# Altium integrated library TI Amplifiers and Linear Operational Amplifier High Speed.IntLib: 1100 symbols (part 30 of 44)
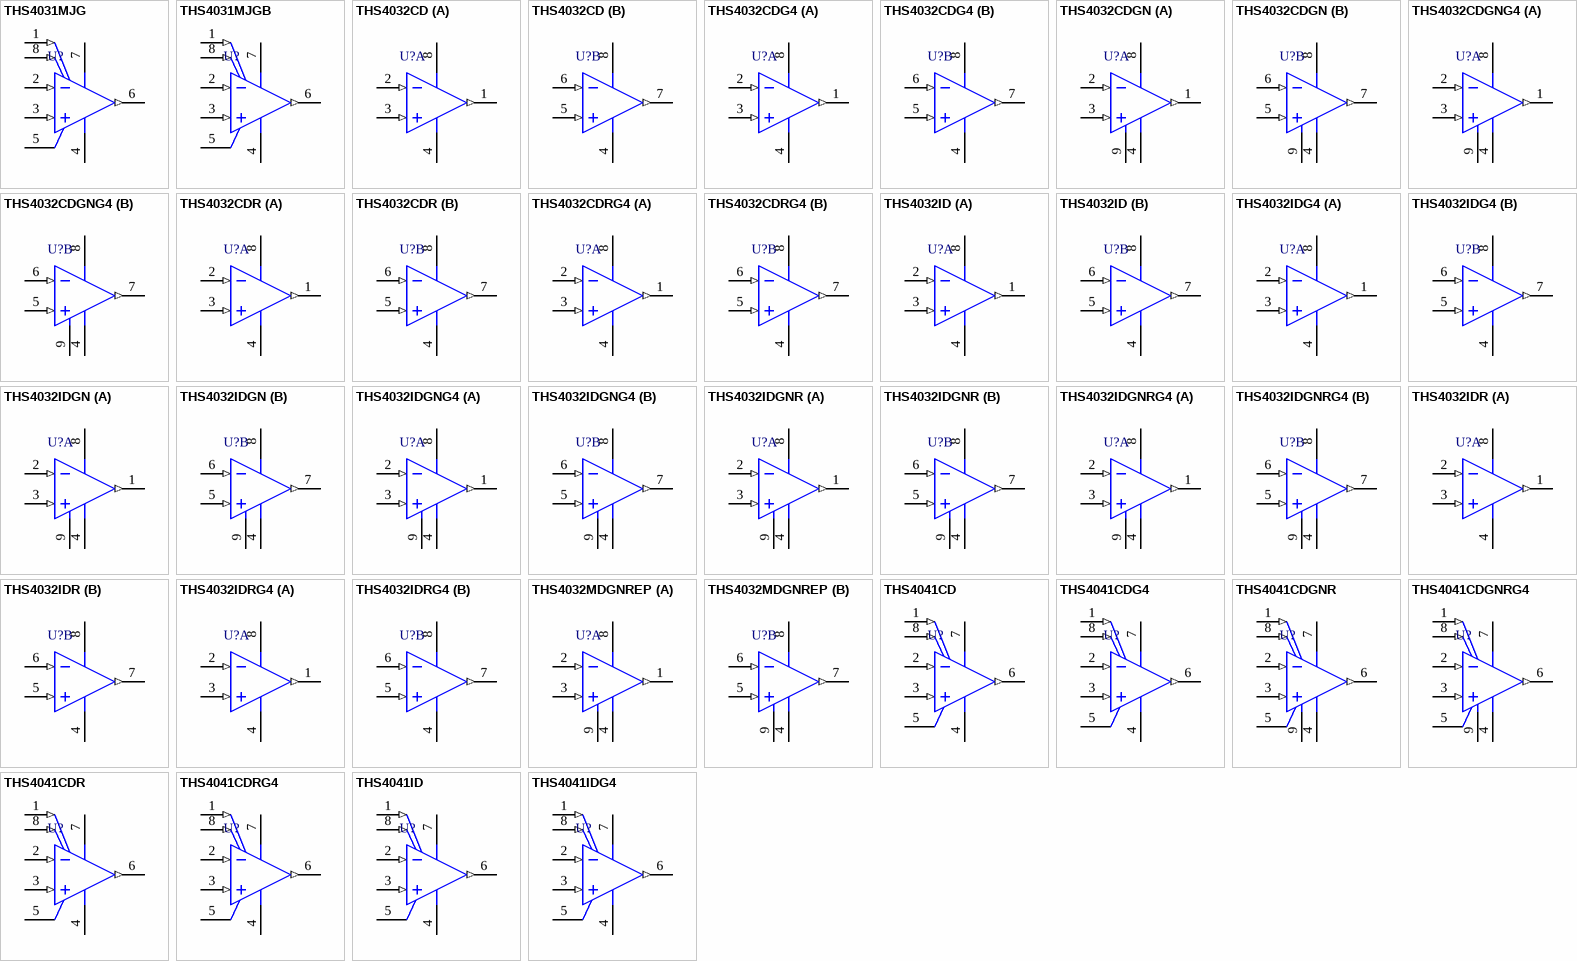
[diagram p80: symbols THS4031MJG to THS4041IDG4]

## THS4041CDG4
designator U?
165 MHz C-Stable Voltage-Feedback Amplifier, 9 to 32 V, 0 to 70 degC, 8-pin SOIC (D8), Green (RoHS & no Sb/Br); Manufacturer: Texas Instruments; PartNumber: THS4041CDG4; 2nd Harmonic(dBc): 75; 3rd Harmonic(dBc): 88; @ MHz: 1; BW @ Acl(MHz): 165; Diff Gain(%): 0.01; Iib(Max)(nA): 6000; Io(Typ)(mA): 100; Iq per channel(Max)(mA): 11; Settling Time (0.1%)(Typ)(ns): 120; Slew Rate(Typ)(V/us): 400; Sub Family: High Output Current Amplifier (>=50mA), High Speed Amplifier (>=50MHz), High Supply Voltage Amplifier (>=30V); THD (Fc is 1 MHz)(Typ)(dB): -75; Vio(Max)(mV): 10; Vn at Flatband(Typ)(nV/rtHz): 14; Vs(Max)(V): 32; Vs(Min)(V): 9; DatasheetVersion: SLOS237B; PackageVersion: 4040047-3/M, 06/2011; PackageReference: D8; PackageDescription: 8-Pin Plastic Small Outline, Body 4.9 x 3.9 mm, Pitch 1.27 mm; Supplier 1: Digi-Key; Supplier Part Number 1: THS4041CDG4-ND; Supplier 2: Mouser; Supplier Part Number 2: 595-THS4041CDG4; Acl, min stable gain(V/V): 1; Diff Phase(deg): 0.01; Eco-Plan: Green (RoHS & no Sb/Br); Number of Channels: 1; Mounting Technology: Surface Mount; Code_JEDEC: MS-012; ComponentLink1Description: Manufacturer URL; ComponentLink1URL: http://www.ti.com/; ComponentLink2Description: Datasheet; ComponentLink2URL: http://www.ti.com/general/docs/lit/getliterature.tsp?genericPartNumber=THS4041&fileType=pdf; ComponentLink3Description: Package Specification; ComponentLink3URL: http://www.ti.com/litv/pdf/msoi002j
footprint TI-D8_N (SOIC, 8-Leads, Body 4.9x3.9mm, Pitch 1.27mm, IPC Medium Density)
footprint TI-D8_L (SOIC, 8-Leads, Body 4.9x3.9mm, Pitch 1.27mm, IPC High Density)
footprint TI-D8_M (SOIC, 8-Leads, Body 4.9x3.9mm, Pitch 1.27mm, IPC Low Density)
pins: 1 NULL (in), 2 IN- (in), 3 IN+ (in), 4 VCC- (power), 5 NC, 6 OUT (out), 7 VCC+ (power), 8 NULL (in)

## THS4041CDGNR
designator U?
165 MHz C-Stable Voltage-Feedback Amplifier, 9 to 32 V, 0 to 70 degC, 8-pin SOP (DGN8), Green (RoHS & no Sb/Br); Manufacturer: Texas Instruments; PartNumber: THS4041CDGNR; 2nd Harmonic(dBc): 75; 3rd Harmonic(dBc): 88; @ MHz: 1; BW @ Acl(MHz): 165; Diff Gain(%): 0.01; Iib(Max)(nA): 6000; Io(Typ)(mA): 100; Iq per channel(Max)(mA): 11; Settling Time (0.1%)(Typ)(ns): 120; Slew Rate(Typ)(V/us): 400; Sub Family: High Output Current Amplifier (>=50mA), High Speed Amplifier (>=50MHz), High Supply Voltage Amplifier (>=30V); THD (Fc is 1 MHz)(Typ)(dB): -75; Vio(Max)(mV): 10; Vn at Flatband(Typ)(nV/rtHz): 14; Vs(Max)(V): 32; Vs(Min)(V): 9; DatasheetVersion: SLOS237B; PackageVersion: 4073271/F, 05/2011; PackageReference: DGN8-1760X1425TP; PackageDescription: 8-pin Plastic Small Outline, Body 3 x 3 mm, Pitch 0.65 mm; Supplier 1: Digi-Key; Supplier Part Number 1: 296-7527-2-ND; Supplier 2: Digi-Key; Supplier Part Number 2: 296-7527-1-ND; Supplier 3: Digi-Key; Supplier Part Number 3: 296-7527-6-ND; Supplier 4: Newark; Supplier Part Number 4: 76C6320; Supplier 5: Mouser; Supplier Part Number 5: 595-THS4041CDGNR; Acl, min stable gain(V/V): 1; Diff Phase(deg): 0.01; Eco-Plan: Green (RoHS & no Sb/Br); Number of Channels: 1; Mounting Technology: Surface Mount; Code_JEDEC: MO-187; ComponentLink1Description: Manufacturer URL; ComponentLink1URL: http://www.ti.com/; ComponentLink2Description: Datasheet; ComponentLink2URL: http://www.ti.com/general/docs/lit/getliterature.tsp?genericPartNumber=THS4041&fileType=pdf; ComponentLink3Description: Package Specification; ComponentLink3URL: http://www.ti.com/litv/pdf/mpds046e
footprint TI-DGN8-1760X1425TP_N (SOP, 8-Leads, Body 3x3mm, Pitch 0.65mm, Thermal Pad 1.76x1.425mm, IPC Medium Density)
footprint TI-DGN8-1760X1425TP_L (SOP, 8-Leads, Body 3x3mm, Pitch 0.65mm, Thermal Pad 1.76x1.425mm, IPC High Density)
footprint TI-DGN8-1760X1425TP_M (SOP, 8-Leads, Body 3x3mm, Pitch 0.65mm, Thermal Pad 1.76 x 1.425 mm, IPC Low Density)
pins: 1 NULL (in), 2 IN- (in), 3 IN+ (in), 4 VCC- (power), 5 NC, 6 OUT (out), 7 VCC+ (power), 8 NULL (in), 9 EP

## THS4041CDGNRG4
designator U?
165 MHz C-Stable Voltage-Feedback Amplifier, 9 to 32 V, 0 to 70 degC, 8-pin SOP (DGN8), Green (RoHS & no Sb/Br); Manufacturer: Texas Instruments; PartNumber: THS4041CDGNRG4; 2nd Harmonic(dBc): 75; 3rd Harmonic(dBc): 88; @ MHz: 1; BW @ Acl(MHz): 165; Diff Gain(%): 0.01; Iib(Max)(nA): 6000; Io(Typ)(mA): 100; Iq per channel(Max)(mA): 11; Settling Time (0.1%)(Typ)(ns): 120; Slew Rate(Typ)(V/us): 400; Sub Family: High Output Current Amplifier (>=50mA), High Speed Amplifier (>=50MHz), High Supply Voltage Amplifier (>=30V); THD (Fc is 1 MHz)(Typ)(dB): -75; Vio(Max)(mV): 10; Vn at Flatband(Typ)(nV/rtHz): 14; Vs(Max)(V): 32; Vs(Min)(V): 9; DatasheetVersion: SLOS237B; PackageVersion: 4073271/F, 05/2011; PackageReference: DGN8-1760X1425TP; PackageDescription: 8-pin Plastic Small Outline, Body 3 x 3 mm, Pitch 0.65 mm; Supplier 1: Digi-Key; Supplier Part Number 1: THS4041CDGNRG4-ND; Supplier 2: Mouser; Supplier Part Number 2: 595-THS4041CDGNRG4; Acl, min stable gain(V/V): 1; Diff Phase(deg): 0.01; Eco-Plan: Green (RoHS & no Sb/Br); Number of Channels: 1; Mounting Technology: Surface Mount; Code_JEDEC: MO-187; ComponentLink1Description: Manufacturer URL; ComponentLink1URL: http://www.ti.com/; ComponentLink2Description: Datasheet; ComponentLink2URL: http://www.ti.com/general/docs/lit/getliterature.tsp?genericPartNumber=THS4041&fileType=pdf; ComponentLink3Description: Package Specification; ComponentLink3URL: http://www.ti.com/litv/pdf/mpds046e
footprint TI-DGN8-1760X1425TP_N (SOP, 8-Leads, Body 3x3mm, Pitch 0.65mm, Thermal Pad 1.76x1.425mm, IPC Medium Density)
footprint TI-DGN8-1760X1425TP_L (SOP, 8-Leads, Body 3x3mm, Pitch 0.65mm, Thermal Pad 1.76x1.425mm, IPC High Density)
footprint TI-DGN8-1760X1425TP_M (SOP, 8-Leads, Body 3x3mm, Pitch 0.65mm, Thermal Pad 1.76 x 1.425 mm, IPC Low Density)
pins: 1 NULL (in), 2 IN- (in), 3 IN+ (in), 4 VCC- (power), 5 NC, 6 OUT (out), 7 VCC+ (power), 8 NULL (in), 9 EP

## THS4041CDR
designator U?
165 MHz C-Stable Voltage-Feedback Amplifier, 9 to 32 V, 0 to 70 degC, 8-pin SOIC (D8), Green (RoHS & no Sb/Br); Manufacturer: Texas Instruments; PartNumber: THS4041CDR; 2nd Harmonic(dBc): 75; 3rd Harmonic(dBc): 88; @ MHz: 1; BW @ Acl(MHz): 165; Diff Gain(%): 0.01; Iib(Max)(nA): 6000; Io(Typ)(mA): 100; Iq per channel(Max)(mA): 11; Settling Time (0.1%)(Typ)(ns): 120; Slew Rate(Typ)(V/us): 400; Sub Family: High Output Current Amplifier (>=50mA), High Speed Amplifier (>=50MHz), High Supply Voltage Amplifier (>=30V); THD (Fc is 1 MHz)(Typ)(dB): -75; Vio(Max)(mV): 10; Vn at Flatband(Typ)(nV/rtHz): 14; Vs(Max)(V): 32; Vs(Min)(V): 9; DatasheetVersion: SLOS237B; PackageVersion: 4040047-3/M, 06/2011; PackageReference: D8; PackageDescription: 8-Pin Plastic Small Outline, Body 4.9 x 3.9 mm, Pitch 1.27 mm; Supplier 1: Digi-Key; Supplier Part Number 1: THS4041CDR-ND; Supplier 2: Mouser; Supplier Part Number 2: 595-THS4041CDR; Acl, min stable gain(V/V): 1; Diff Phase(deg): 0.01; Eco-Plan: Green (RoHS & no Sb/Br); Number of Channels: 1; Mounting Technology: Surface Mount; Code_JEDEC: MS-012; ComponentLink1Description: Manufacturer URL; ComponentLink1URL: http://www.ti.com/; ComponentLink2Description: Datasheet; ComponentLink2URL: http://www.ti.com/general/docs/lit/getliterature.tsp?genericPartNumber=THS4041&fileType=pdf; ComponentLink3Description: Package Specification; ComponentLink3URL: http://www.ti.com/litv/pdf/msoi002j
footprint TI-D8_N (SOIC, 8-Leads, Body 4.9x3.9mm, Pitch 1.27mm, IPC Medium Density)
footprint TI-D8_L (SOIC, 8-Leads, Body 4.9x3.9mm, Pitch 1.27mm, IPC High Density)
footprint TI-D8_M (SOIC, 8-Leads, Body 4.9x3.9mm, Pitch 1.27mm, IPC Low Density)
pins: 1 NULL (in), 2 IN- (in), 3 IN+ (in), 4 VCC- (power), 5 NC, 6 OUT (out), 7 VCC+ (power), 8 NULL (in)

## THS4041CDRG4
designator U?
165 MHz C-Stable Voltage-Feedback Amplifier, 9 to 32 V, 0 to 70 degC, 8-pin SOIC (D8), Green (RoHS & no Sb/Br); Manufacturer: Texas Instruments; PartNumber: THS4041CDRG4; 2nd Harmonic(dBc): 75; 3rd Harmonic(dBc): 88; @ MHz: 1; BW @ Acl(MHz): 165; Diff Gain(%): 0.01; Iib(Max)(nA): 6000; Io(Typ)(mA): 100; Iq per channel(Max)(mA): 11; Settling Time (0.1%)(Typ)(ns): 120; Slew Rate(Typ)(V/us): 400; Sub Family: High Output Current Amplifier (>=50mA), High Speed Amplifier (>=50MHz), High Supply Voltage Amplifier (>=30V); THD (Fc is 1 MHz)(Typ)(dB): -75; Vio(Max)(mV): 10; Vn at Flatband(Typ)(nV/rtHz): 14; Vs(Max)(V): 32; Vs(Min)(V): 9; DatasheetVersion: SLOS237B; PackageVersion: 4040047-3/M, 06/2011; PackageReference: D8; PackageDescription: 8-Pin Plastic Small Outline, Body 4.9 x 3.9 mm, Pitch 1.27 mm; Supplier 1: Digi-Key; Supplier Part Number 1: THS4041CDRG4-ND; Supplier 2: Mouser; Supplier Part Number 2: 595-THS4041CDRG4; Acl, min stable gain(V/V): 1; Diff Phase(deg): 0.01; Eco-Plan: Green (RoHS & no Sb/Br); Number of Channels: 1; Mounting Technology: Surface Mount; Code_JEDEC: MS-012; ComponentLink1Description: Manufacturer URL; ComponentLink1URL: http://www.ti.com/; ComponentLink2Description: Datasheet; ComponentLink2URL: http://www.ti.com/general/docs/lit/getliterature.tsp?genericPartNumber=THS4041&fileType=pdf; ComponentLink3Description: Package Specification; ComponentLink3URL: http://www.ti.com/litv/pdf/msoi002j
footprint TI-D8_N (SOIC, 8-Leads, Body 4.9x3.9mm, Pitch 1.27mm, IPC Medium Density)
footprint TI-D8_L (SOIC, 8-Leads, Body 4.9x3.9mm, Pitch 1.27mm, IPC High Density)
footprint TI-D8_M (SOIC, 8-Leads, Body 4.9x3.9mm, Pitch 1.27mm, IPC Low Density)
pins: 1 NULL (in), 2 IN- (in), 3 IN+ (in), 4 VCC- (power), 5 NC, 6 OUT (out), 7 VCC+ (power), 8 NULL (in)

## THS4041ID
designator U?
165 MHz C-Stable Voltage-Feedback Amplifier, 9 to 32 V, -40 to 85 degC, 8-pin SOIC (D8), Green (RoHS & no Sb/Br); Manufacturer: Texas Instruments; PartNumber: THS4041ID; 2nd Harmonic(dBc): 75; 3rd Harmonic(dBc): 88; @ MHz: 1; BW @ Acl(MHz): 165; Diff Gain(%): 0.01; Iib(Max)(nA): 6000; Io(Typ)(mA): 100; Iq per channel(Max)(mA): 11; Settling Time (0.1%)(Typ)(ns): 120; Slew Rate(Typ)(V/us): 400; Sub Family: High Output Current Amplifier (>=50mA), High Speed Amplifier (>=50MHz), High Supply Voltage Amplifier (>=30V); THD (Fc is 1 MHz)(Typ)(dB): -75; Vio(Max)(mV): 10; Vn at Flatband(Typ)(nV/rtHz): 14; Vs(Max)(V): 32; Vs(Min)(V): 9; DatasheetVersion: SLOS237B; PackageVersion: 4040047-3/M, 06/2011; PackageReference: D8; PackageDescription: 8-Pin Plastic Small Outline, Body 4.9 x 3.9 mm, Pitch 1.27 mm; Supplier 1: Digi-Key; Supplier Part Number 1: 296-7528-5-ND; Supplier 2: Mouser; Supplier Part Number 2: 595-THS4041ID; Acl, min stable gain(V/V): 1; Diff Phase(deg): 0.01; Eco-Plan: Green (RoHS & no Sb/Br); Number of Channels: 1; Mounting Technology: Surface Mount; Code_JEDEC: MS-012; ComponentLink1Description: Manufacturer URL; ComponentLink1URL: http://www.ti.com/; ComponentLink2Description: Datasheet; ComponentLink2URL: http://www.ti.com/general/docs/lit/getliterature.tsp?genericPartNumber=THS4041&fileType=pdf; ComponentLink3Description: Package Specification; ComponentLink3URL: http://www.ti.com/litv/pdf/msoi002j
footprint TI-D8_N (SOIC, 8-Leads, Body 4.9x3.9mm, Pitch 1.27mm, IPC Medium Density)
footprint TI-D8_L (SOIC, 8-Leads, Body 4.9x3.9mm, Pitch 1.27mm, IPC High Density)
footprint TI-D8_M (SOIC, 8-Leads, Body 4.9x3.9mm, Pitch 1.27mm, IPC Low Density)
pins: 1 NULL (in), 2 IN- (in), 3 IN+ (in), 4 VCC- (power), 5 NC, 6 OUT (out), 7 VCC+ (power), 8 NULL (in)

## THS4041IDG4
designator U?
165 MHz C-Stable Voltage-Feedback Amplifier, 9 to 32 V, -40 to 85 degC, 8-pin SOIC (D8), Green (RoHS & no Sb/Br); Manufacturer: Texas Instruments; PartNumber: THS4041IDG4; 2nd Harmonic(dBc): 75; 3rd Harmonic(dBc): 88; @ MHz: 1; BW @ Acl(MHz): 165; Diff Gain(%): 0.01; Iib(Max)(nA): 6000; Io(Typ)(mA): 100; Iq per channel(Max)(mA): 11; Settling Time (0.1%)(Typ)(ns): 120; Slew Rate(Typ)(V/us): 400; Sub Family: High Output Current Amplifier (>=50mA), High Speed Amplifier (>=50MHz), High Supply Voltage Amplifier (>=30V); THD (Fc is 1 MHz)(Typ)(dB): -75; Vio(Max)(mV): 10; Vn at Flatband(Typ)(nV/rtHz): 14; Vs(Max)(V): 32; Vs(Min)(V): 9; DatasheetVersion: SLOS237B; PackageVersion: 4040047-3/M, 06/2011; PackageReference: D8; PackageDescription: 8-Pin Plastic Small Outline, Body 4.9 x 3.9 mm, Pitch 1.27 mm; Supplier 1: Digi-Key; Supplier Part Number 1: THS4041IDG4-ND; Supplier 2: Mouser; Supplier Part Number 2: 595-THS4041IDG4; Acl, min stable gain(V/V): 1; Diff Phase(deg): 0.01; Eco-Plan: Green (RoHS & no Sb/Br); Number of Channels: 1; Mounting Technology: Surface Mount; Code_JEDEC: MS-012; ComponentLink1Description: Manufacturer URL; ComponentLink1URL: http://www.ti.com/; ComponentLink2Description: Datasheet; ComponentLink2URL: http://www.ti.com/general/docs/lit/getliterature.tsp?genericPartNumber=THS4041&fileType=pdf; ComponentLink3Description: Package Specification; ComponentLink3URL: http://www.ti.com/litv/pdf/msoi002j
footprint TI-D8_N (SOIC, 8-Leads, Body 4.9x3.9mm, Pitch 1.27mm, IPC Medium Density)
footprint TI-D8_L (SOIC, 8-Leads, Body 4.9x3.9mm, Pitch 1.27mm, IPC High Density)
footprint TI-D8_M (SOIC, 8-Leads, Body 4.9x3.9mm, Pitch 1.27mm, IPC Low Density)
pins: 1 NULL (in), 2 IN- (in), 3 IN+ (in), 4 VCC- (power), 5 NC, 6 OUT (out), 7 VCC+ (power), 8 NULL (in)

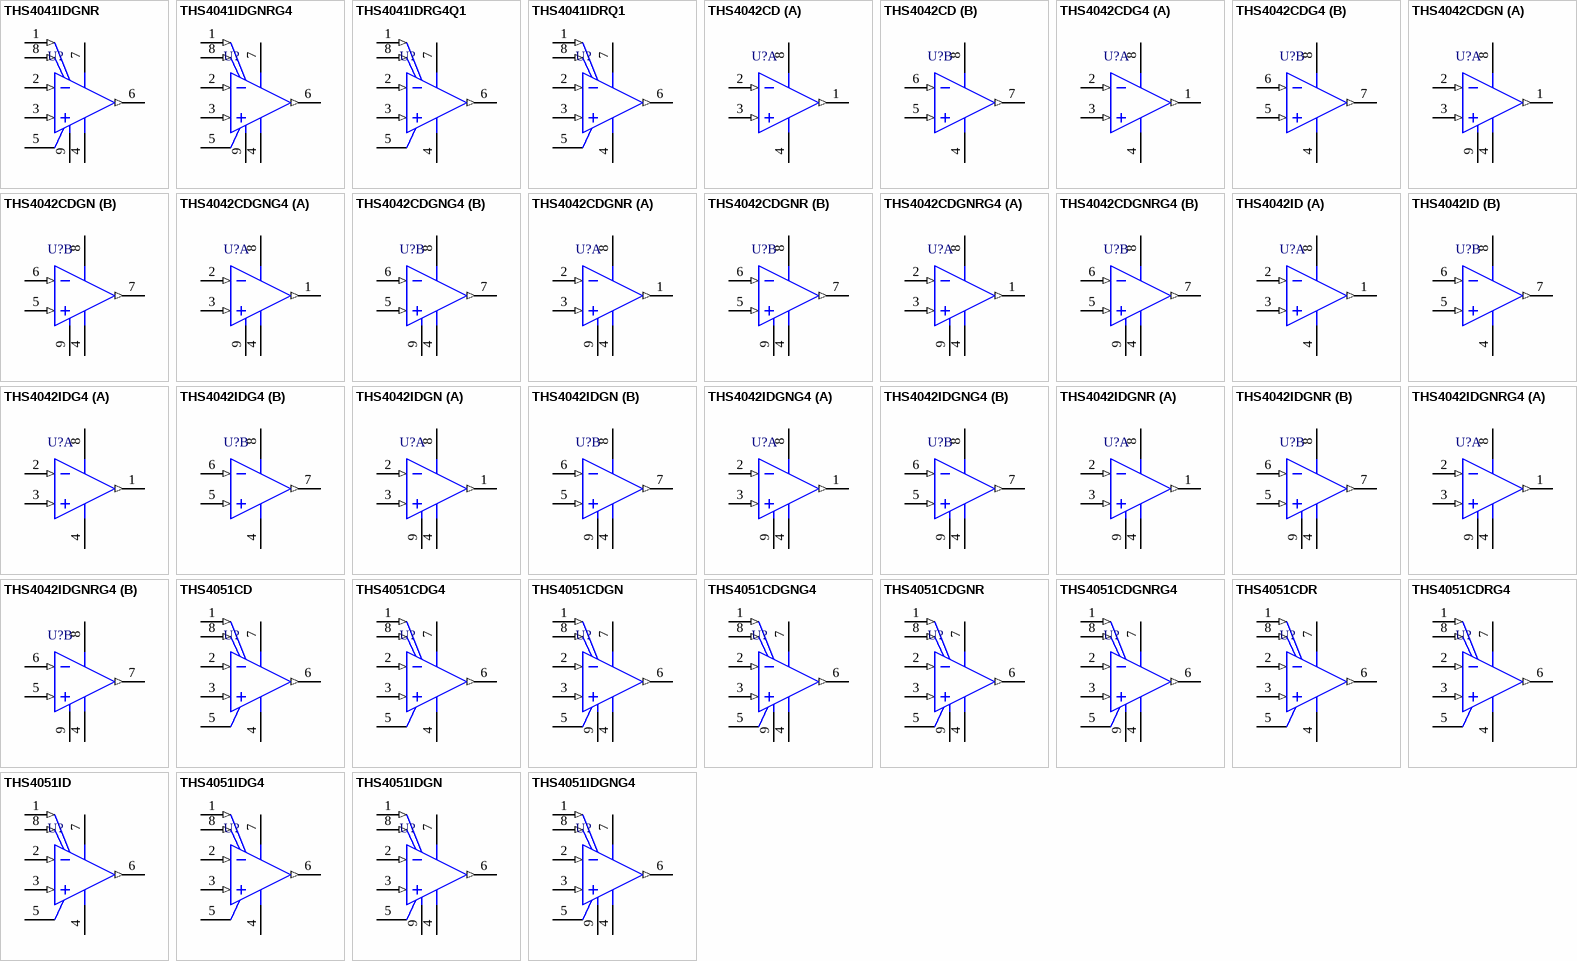
[diagram p35: symbols THS4041IDGNR to THS4051IDGNG4]

## THS4041IDGNR
designator U?
165 MHz C-Stable Voltage-Feedback Amplifier, 9 to 32 V, -40 to 85 degC, 8-pin SOP (DGN8), Green (RoHS & no Sb/Br); Manufacturer: Texas Instruments; PartNumber: THS4041IDGNR; 2nd Harmonic(dBc): 75; 3rd Harmonic(dBc): 88; @ MHz: 1; BW @ Acl(MHz): 165; Diff Gain(%): 0.01; Iib(Max)(nA): 6000; Io(Typ)(mA): 100; Iq per channel(Max)(mA): 11; Settling Time (0.1%)(Typ)(ns): 120; Slew Rate(Typ)(V/us): 400; Sub Family: High Output Current Amplifier (>=50mA), High Speed Amplifier (>=50MHz), High Supply Voltage Amplifier (>=30V); THD (Fc is 1 MHz)(Typ)(dB): -75; Vio(Max)(mV): 10; Vn at Flatband(Typ)(nV/rtHz): 14; Vs(Max)(V): 32; Vs(Min)(V): 9; DatasheetVersion: SLOS237B; PackageVersion: 4073271/F, 05/2011; PackageReference: DGN8-1760X1425TP; PackageDescription: 8-pin Plastic Small Outline, Body 3 x 3 mm, Pitch 0.65 mm; Supplier 1: Digi-Key; Supplier Part Number 1: 296-10033-2-ND; Supplier 2: Digi-Key; Supplier Part Number 2: 296-10033-1-ND; Supplier 3: Digi-Key; Supplier Part Number 3: 296-10033-6-ND; Supplier 4: Newark; Supplier Part Number 4: 76C6325; Supplier 5: Mouser; Supplier Part Number 5: 595-THS4041IDGNR; Acl, min stable gain(V/V): 1; Diff Phase(deg): 0.01; Eco-Plan: Green (RoHS & no Sb/Br); Number of Channels: 1; Mounting Technology: Surface Mount; Code_JEDEC: MO-187; ComponentLink1Description: Manufacturer URL; ComponentLink1URL: http://www.ti.com/; ComponentLink2Description: Datasheet; ComponentLink2URL: http://www.ti.com/general/docs/lit/getliterature.tsp?genericPartNumber=THS4041&fileType=pdf; ComponentLink3Description: Package Specification; ComponentLink3URL: http://www.ti.com/litv/pdf/mpds046e
footprint TI-DGN8-1760X1425TP_N (SOP, 8-Leads, Body 3x3mm, Pitch 0.65mm, Thermal Pad 1.76x1.425mm, IPC Medium Density)
footprint TI-DGN8-1760X1425TP_L (SOP, 8-Leads, Body 3x3mm, Pitch 0.65mm, Thermal Pad 1.76x1.425mm, IPC High Density)
footprint TI-DGN8-1760X1425TP_M (SOP, 8-Leads, Body 3x3mm, Pitch 0.65mm, Thermal Pad 1.76 x 1.425 mm, IPC Low Density)
pins: 1 NULL (in), 2 IN- (in), 3 IN+ (in), 4 VCC- (power), 5 NC, 6 OUT (out), 7 VCC+ (power), 8 NULL (in), 9 EP

## THS4041IDGNRG4
designator U?
165 MHz C-Stable Voltage-Feedback Amplifier, 9 to 32 V, -40 to 85 degC, 8-pin SOP (DGN8), Green (RoHS & no Sb/Br); Manufacturer: Texas Instruments; PartNumber: THS4041IDGNRG4; 2nd Harmonic(dBc): 75; 3rd Harmonic(dBc): 88; @ MHz: 1; BW @ Acl(MHz): 165; Diff Gain(%): 0.01; Iib(Max)(nA): 6000; Io(Typ)(mA): 100; Iq per channel(Max)(mA): 11; Settling Time (0.1%)(Typ)(ns): 120; Slew Rate(Typ)(V/us): 400; Sub Family: High Output Current Amplifier (>=50mA), High Speed Amplifier (>=50MHz), High Supply Voltage Amplifier (>=30V); THD (Fc is 1 MHz)(Typ)(dB): -75; Vio(Max)(mV): 10; Vn at Flatband(Typ)(nV/rtHz): 14; Vs(Max)(V): 32; Vs(Min)(V): 9; DatasheetVersion: SLOS237B; PackageVersion: 4073271/F, 05/2011; PackageReference: DGN8-1760X1425TP; PackageDescription: 8-pin Plastic Small Outline, Body 3 x 3 mm, Pitch 0.65 mm; Supplier 1: Digi-Key; Supplier Part Number 1: THS4041IDGNRG4-ND; Supplier 2: Mouser; Supplier Part Number 2: 595-THS4041IDGNRG4; Acl, min stable gain(V/V): 1; Diff Phase(deg): 0.01; Eco-Plan: Green (RoHS & no Sb/Br); Number of Channels: 1; Mounting Technology: Surface Mount; Code_JEDEC: MO-187; ComponentLink1Description: Manufacturer URL; ComponentLink1URL: http://www.ti.com/; ComponentLink2Description: Datasheet; ComponentLink2URL: http://www.ti.com/general/docs/lit/getliterature.tsp?genericPartNumber=THS4041&fileType=pdf; ComponentLink3Description: Package Specification; ComponentLink3URL: http://www.ti.com/litv/pdf/mpds046e
footprint TI-DGN8-1760X1425TP_N (SOP, 8-Leads, Body 3x3mm, Pitch 0.65mm, Thermal Pad 1.76x1.425mm, IPC Medium Density)
footprint TI-DGN8-1760X1425TP_L (SOP, 8-Leads, Body 3x3mm, Pitch 0.65mm, Thermal Pad 1.76x1.425mm, IPC High Density)
footprint TI-DGN8-1760X1425TP_M (SOP, 8-Leads, Body 3x3mm, Pitch 0.65mm, Thermal Pad 1.76 x 1.425 mm, IPC Low Density)
pins: 1 NULL (in), 2 IN- (in), 3 IN+ (in), 4 VCC- (power), 5 NC, 6 OUT (out), 7 VCC+ (power), 8 NULL (in), 9 EP

## THS4041IDRG4Q1
designator U?
Automotive Catalog 165 MHz C-Stable High Speed Amplifer, 9 to 32 V, -40 to 85 degC, 8-pin SOIC (D8), Green (RoHS & no Sb/Br); Manufacturer: Texas Instruments; PartNumber: THS4041IDRG4Q1; @ MHz: 1; BW @ Acl(MHz): 165; Diff Gain(%): 0.01; Iib(Max)(nA): 6000; Io(Typ)(mA): 100; Iq per channel(Max)(mA): 9.5; Settling Time (0.1%)(Typ)(ns): 120; Slew Rate(Typ)(V/us): 400; Sub Family: High Output Current Amplifier (>=50mA), High Speed Amplifier (>=50MHz); THD (Fc is 1 MHz)(Typ)(dB): -75; Vio(Max)(mV): 2; Vn at Flatband(Typ)(nV/rtHz): 14; Vs(Max)(V): 32; Vs(Min)(V): 9; DatasheetVersion: SGLS229B; PackageVersion: 4040047-3/M, 06/2011; PackageReference: D8; PackageDescription: 8-Pin Plastic Small Outline, Body 4.9 x 3.9 mm, Pitch 1.27 mm; Supplier 1: Digi-Key; Supplier Part Number 1: THS4041IDRG4Q1-ND; Supplier 2: Mouser; Supplier Part Number 2: 595-THS4041IDRG4Q1; Diff Phase(deg): 0.01; Eco-Plan: Green (RoHS & no Sb/Br); Number of Channels: 1; Mounting Technology: Surface Mount; Code_JEDEC: MS-012; ComponentLink1Description: Manufacturer URL; ComponentLink1URL: http://www.ti.com/; ComponentLink2Description: Datasheet; ComponentLink2URL: http://www.ti.com/general/docs/lit/getliterature.tsp?genericPartNumber=THS4041-Q1&fileType=pdf; ComponentLink3Description: Package Specification; ComponentLink3URL: http://www.ti.com/litv/pdf/msoi002j
footprint TI-D8_N (SOIC, 8-Leads, Body 4.9x3.9mm, Pitch 1.27mm, IPC Medium Density)
footprint TI-D8_L (SOIC, 8-Leads, Body 4.9x3.9mm, Pitch 1.27mm, IPC High Density)
footprint TI-D8_M (SOIC, 8-Leads, Body 4.9x3.9mm, Pitch 1.27mm, IPC Low Density)
pins: 1 NULL (in), 2 IN- (in), 3 IN+ (in), 4 VCC- (power), 5 NC, 6 OUT (out), 7 VCC+ (power), 8 NULL (in)

## THS4041IDRQ1
designator U?
Automotive Catalog 165 MHz C-Stable High Speed Amplifer, 9 to 32 V, -40 to 85 degC, 8-pin SOIC (D8), Green (RoHS & no Sb/Br); Manufacturer: Texas Instruments; PartNumber: THS4041IDRQ1; @ MHz: 1; BW @ Acl(MHz): 165; Diff Gain(%): 0.01; Iib(Max)(nA): 6000; Io(Typ)(mA): 100; Iq per channel(Max)(mA): 9.5; Settling Time (0.1%)(Typ)(ns): 120; Slew Rate(Typ)(V/us): 400; Sub Family: High Output Current Amplifier (>=50mA), High Speed Amplifier (>=50MHz); THD (Fc is 1 MHz)(Typ)(dB): -75; Vio(Max)(mV): 2; Vn at Flatband(Typ)(nV/rtHz): 14; Vs(Max)(V): 32; Vs(Min)(V): 9; DatasheetVersion: SGLS229B; PackageVersion: 4040047-3/M, 06/2011; PackageReference: D8; PackageDescription: 8-Pin Plastic Small Outline, Body 4.9 x 3.9 mm, Pitch 1.27 mm; Supplier 1: Digi-Key; Supplier Part Number 1: THS4041IDRQ1-ND; Supplier 2: Mouser; Supplier Part Number 2: 595-THS4041IDRQ1; Diff Phase(deg): 0.01; Eco-Plan: Green (RoHS & no Sb/Br); Number of Channels: 1; Mounting Technology: Surface Mount; Code_JEDEC: MS-012; ComponentLink1Description: Manufacturer URL; ComponentLink1URL: http://www.ti.com/; ComponentLink2Description: Datasheet; ComponentLink2URL: http://www.ti.com/general/docs/lit/getliterature.tsp?genericPartNumber=THS4041-Q1&fileType=pdf; ComponentLink3Description: Package Specification; ComponentLink3URL: http://www.ti.com/litv/pdf/msoi002j
footprint TI-D8_N (SOIC, 8-Leads, Body 4.9x3.9mm, Pitch 1.27mm, IPC Medium Density)
footprint TI-D8_L (SOIC, 8-Leads, Body 4.9x3.9mm, Pitch 1.27mm, IPC High Density)
footprint TI-D8_M (SOIC, 8-Leads, Body 4.9x3.9mm, Pitch 1.27mm, IPC Low Density)
pins: 1 NULL (in), 2 IN- (in), 3 IN+ (in), 4 VCC- (power), 5 NC, 6 OUT (out), 7 VCC+ (power), 8 NULL (in)

## THS4042CD
designator U?
165 MHz C-Stable Voltage-Feedback Amplifier, Dual, 9 to 32 V, 0 to 70 degC, 8-pin SOIC (D8), Green (RoHS & no Sb/Br); Manufacturer: Texas Instruments; PartNumber: THS4042CD; 2nd Harmonic(dBc): 75; 3rd Harmonic(dBc): 88; @ MHz: 1; BW @ Acl(MHz): 165; Diff Gain(%): 0.01; Iib(Max)(nA): 8000; Io(Typ)(mA): 100; Iq per channel(Max)(mA): 11; Number of Channels: 2; Settling Time (0.1%)(Typ)(ns): 95; Slew Rate(Typ)(V/us): 400; Sub Family: High Output Current Amplifier (>=50mA), High Speed Amplifier (>=50MHz), High Supply Voltage Amplifier (>=30V); THD (Fc is 1 MHz)(Typ)(dB): -75; Vio(Max)(mV): 10; Vn at Flatband(Typ)(nV/rtHz): 14; Vs(Max)(V): 32; Vs(Min)(V): 9; DatasheetVersion: SLOS237B; PackageVersion: 4040047-3/M, 06/2011; PackageReference: D8; PackageDescription: 8-Pin Plastic Small Outline, Body 4.9 x 3.9 mm, Pitch 1.27 mm; Supplier 1: Digi-Key; Supplier Part Number 1: 296-7530-5-ND; Supplier 2: Farnell; Supplier Part Number 2: 8453225; Supplier 3: Newark; Supplier Part Number 3: 38K8248; Supplier 4: Newark; Supplier Part Number 4: 25C4271; Supplier 5: Mouser; Supplier Part Number 5: 595-THS4042CD; Acl, min stable gain(V/V): 1; Diff Phase(deg): 0.01; Eco-Plan: Green (RoHS & no Sb/Br); Mounting Technology: Surface Mount; Code_JEDEC: MS-012; ComponentLink1Description: Manufacturer URL; ComponentLink1URL: http://www.ti.com/; ComponentLink2Description: Datasheet; ComponentLink2URL: http://www.ti.com/general/docs/lit/getliterature.tsp?genericPartNumber=THS4042&fileType=pdf; ComponentLink3Description: Package Specification; ComponentLink3URL: http://www.ti.com/litv/pdf/msoi002j
footprint TI-D8_N (SOIC, 8-Leads, Body 4.9x3.9mm, Pitch 1.27mm, IPC Medium Density)
footprint TI-D8_L (SOIC, 8-Leads, Body 4.9x3.9mm, Pitch 1.27mm, IPC High Density)
footprint TI-D8_M (SOIC, 8-Leads, Body 4.9x3.9mm, Pitch 1.27mm, IPC Low Density)
pins on every part: 4 VCC- (power), 8 VCC+ (power)
part A pins: 1 OUT1 (out), 2 IN1- (in), 3 IN1+ (in)
part B pins: 5 IN2+ (in), 6 IN2- (in), 7 OUT2 (out)

## THS4042CDG4
designator U?
165 MHz C-Stable Voltage-Feedback Amplifier, Dual, 9 to 32 V, 0 to 70 degC, 8-pin SOIC (D8), Green (RoHS & no Sb/Br); Manufacturer: Texas Instruments; PartNumber: THS4042CDG4; 2nd Harmonic(dBc): 75; 3rd Harmonic(dBc): 88; @ MHz: 1; BW @ Acl(MHz): 165; Diff Gain(%): 0.01; Iib(Max)(nA): 8000; Io(Typ)(mA): 100; Iq per channel(Max)(mA): 11; Number of Channels: 2; Settling Time (0.1%)(Typ)(ns): 95; Slew Rate(Typ)(V/us): 400; Sub Family: High Output Current Amplifier (>=50mA), High Speed Amplifier (>=50MHz), High Supply Voltage Amplifier (>=30V); THD (Fc is 1 MHz)(Typ)(dB): -75; Vio(Max)(mV): 10; Vn at Flatband(Typ)(nV/rtHz): 14; Vs(Max)(V): 32; Vs(Min)(V): 9; DatasheetVersion: SLOS237B; PackageVersion: 4040047-3/M, 06/2011; PackageReference: D8; PackageDescription: 8-Pin Plastic Small Outline, Body 4.9 x 3.9 mm, Pitch 1.27 mm; Supplier 1: Digi-Key; Supplier Part Number 1: THS4042CDG4-ND; Supplier 2: Mouser; Supplier Part Number 2: 595-THS4042CDG4; Acl, min stable gain(V/V): 1; Diff Phase(deg): 0.01; Eco-Plan: Green (RoHS & no Sb/Br); Mounting Technology: Surface Mount; Code_JEDEC: MS-012; ComponentLink1Description: Manufacturer URL; ComponentLink1URL: http://www.ti.com/; ComponentLink2Description: Datasheet; ComponentLink2URL: http://www.ti.com/general/docs/lit/getliterature.tsp?genericPartNumber=THS4042&fileType=pdf; ComponentLink3Description: Package Specification; ComponentLink3URL: http://www.ti.com/litv/pdf/msoi002j
footprint TI-D8_N (SOIC, 8-Leads, Body 4.9x3.9mm, Pitch 1.27mm, IPC Medium Density)
footprint TI-D8_L (SOIC, 8-Leads, Body 4.9x3.9mm, Pitch 1.27mm, IPC High Density)
footprint TI-D8_M (SOIC, 8-Leads, Body 4.9x3.9mm, Pitch 1.27mm, IPC Low Density)
pins on every part: 4 VCC- (power), 8 VCC+ (power)
part A pins: 1 OUT1 (out), 2 IN1- (in), 3 IN1+ (in)
part B pins: 5 IN2+ (in), 6 IN2- (in), 7 OUT2 (out)

## THS4042CDGN
designator U?
165 MHz C-Stable Voltage-Feedback Amplifier, Dual, 9 to 32 V, 0 to 70 degC, 8-pin SOP (DGN8), Green (RoHS & no Sb/Br); Manufacturer: Texas Instruments; PartNumber: THS4042CDGN; 2nd Harmonic(dBc): 75; 3rd Harmonic(dBc): 88; @ MHz: 1; BW @ Acl(MHz): 165; Diff Gain(%): 0.01; Iib(Max)(nA): 8000; Io(Typ)(mA): 100; Iq per channel(Max)(mA): 11; Number of Channels: 2; Settling Time (0.1%)(Typ)(ns): 95; Slew Rate(Typ)(V/us): 400; Sub Family: High Output Current Amplifier (>=50mA), High Speed Amplifier (>=50MHz), High Supply Voltage Amplifier (>=30V); THD (Fc is 1 MHz)(Typ)(dB): -75; Vio(Max)(mV): 10; Vn at Flatband(Typ)(nV/rtHz): 14; Vs(Max)(V): 32; Vs(Min)(V): 9; DatasheetVersion: SLOS237B; PackageVersion: 4073271/F, 05/2011; PackageReference: DGN8-1760X1425TP; PackageDescription: 8-pin Plastic Small Outline, Body 3 x 3 mm, Pitch 0.65 mm; Supplier 1: Digi-Key; Supplier Part Number 1: THS4042CDGN-ND; Supplier 2: Mouser; Supplier Part Number 2: 595-THS4042CDGN; Acl, min stable gain(V/V): 1; Diff Phase(deg): 0.01; Eco-Plan: Green (RoHS & no Sb/Br); Mounting Technology: Surface Mount; Code_JEDEC: MO-187; ComponentLink1Description: Manufacturer URL; ComponentLink1URL: http://www.ti.com/; ComponentLink2Description: Datasheet; ComponentLink2URL: http://www.ti.com/general/docs/lit/getliterature.tsp?genericPartNumber=THS4042&fileType=pdf; ComponentLink3Description: Package Specification; ComponentLink3URL: http://www.ti.com/litv/pdf/mpds046e
footprint TI-DGN8-1760X1425TP_N (SOP, 8-Leads, Body 3x3mm, Pitch 0.65mm, Thermal Pad 1.76x1.425mm, IPC Medium Density)
footprint TI-DGN8-1760X1425TP_L (SOP, 8-Leads, Body 3x3mm, Pitch 0.65mm, Thermal Pad 1.76x1.425mm, IPC High Density)
footprint TI-DGN8-1760X1425TP_M (SOP, 8-Leads, Body 3x3mm, Pitch 0.65mm, Thermal Pad 1.76 x 1.425 mm, IPC Low Density)
pins on every part: 4 VCC- (power), 8 VCC+ (power), 9 EP
part A pins: 1 OUT1 (out), 2 IN1- (in), 3 IN1+ (in)
part B pins: 5 IN2+ (in), 6 IN2- (in), 7 OUT2 (out)

## THS4042CDGNG4
designator U?
165 MHz C-Stable Voltage-Feedback Amplifier, Dual, 9 to 32 V, 0 to 70 degC, 8-pin SOP (DGN8), Green (RoHS & no Sb/Br); Manufacturer: Texas Instruments; PartNumber: THS4042CDGNG4; 2nd Harmonic(dBc): 75; 3rd Harmonic(dBc): 88; @ MHz: 1; BW @ Acl(MHz): 165; Diff Gain(%): 0.01; Iib(Max)(nA): 8000; Io(Typ)(mA): 100; Iq per channel(Max)(mA): 11; Number of Channels: 2; Settling Time (0.1%)(Typ)(ns): 95; Slew Rate(Typ)(V/us): 400; Sub Family: High Output Current Amplifier (>=50mA), High Speed Amplifier (>=50MHz), High Supply Voltage Amplifier (>=30V); THD (Fc is 1 MHz)(Typ)(dB): -75; Vio(Max)(mV): 10; Vn at Flatband(Typ)(nV/rtHz): 14; Vs(Max)(V): 32; Vs(Min)(V): 9; DatasheetVersion: SLOS237B; PackageVersion: 4073271/F, 05/2011; PackageReference: DGN8-1760X1425TP; PackageDescription: 8-pin Plastic Small Outline, Body 3 x 3 mm, Pitch 0.65 mm; Supplier 1: Digi-Key; Supplier Part Number 1: THS4042CDGNG4-ND; Supplier 2: Mouser; Supplier Part Number 2: 595-THS4042CDGNG4; Acl, min stable gain(V/V): 1; Diff Phase(deg): 0.01; Eco-Plan: Green (RoHS & no Sb/Br); Mounting Technology: Surface Mount; Code_JEDEC: MO-187; ComponentLink1Description: Manufacturer URL; ComponentLink1URL: http://www.ti.com/; ComponentLink2Description: Datasheet; ComponentLink2URL: http://www.ti.com/general/docs/lit/getliterature.tsp?genericPartNumber=THS4042&fileType=pdf; ComponentLink3Description: Package Specification; ComponentLink3URL: http://www.ti.com/litv/pdf/mpds046e
footprint TI-DGN8-1760X1425TP_N (SOP, 8-Leads, Body 3x3mm, Pitch 0.65mm, Thermal Pad 1.76x1.425mm, IPC Medium Density)
footprint TI-DGN8-1760X1425TP_L (SOP, 8-Leads, Body 3x3mm, Pitch 0.65mm, Thermal Pad 1.76x1.425mm, IPC High Density)
footprint TI-DGN8-1760X1425TP_M (SOP, 8-Leads, Body 3x3mm, Pitch 0.65mm, Thermal Pad 1.76 x 1.425 mm, IPC Low Density)
pins on every part: 4 VCC- (power), 8 VCC+ (power), 9 EP
part A pins: 1 OUT1 (out), 2 IN1- (in), 3 IN1+ (in)
part B pins: 5 IN2+ (in), 6 IN2- (in), 7 OUT2 (out)

## THS4042CDGNR
designator U?
165 MHz C-Stable Voltage-Feedback Amplifier, Dual, 9 to 32 V, 0 to 70 degC, 8-pin SOP (DGN8), Green (RoHS & no Sb/Br); Manufacturer: Texas Instruments; PartNumber: THS4042CDGNR; 2nd Harmonic(dBc): 75; 3rd Harmonic(dBc): 88; @ MHz: 1; BW @ Acl(MHz): 165; Diff Gain(%): 0.01; Iib(Max)(nA): 8000; Io(Typ)(mA): 100; Iq per channel(Max)(mA): 11; Number of Channels: 2; Settling Time (0.1%)(Typ)(ns): 95; Slew Rate(Typ)(V/us): 400; Sub Family: High Output Current Amplifier (>=50mA), High Speed Amplifier (>=50MHz), High Supply Voltage Amplifier (>=30V); THD (Fc is 1 MHz)(Typ)(dB): -75; Vio(Max)(mV): 10; Vn at Flatband(Typ)(nV/rtHz): 14; Vs(Max)(V): 32; Vs(Min)(V): 9; DatasheetVersion: SLOS237B; PackageVersion: 4073271/F, 05/2011; PackageReference: DGN8-1760X1425TP; PackageDescription: 8-pin Plastic Small Outline, Body 3 x 3 mm, Pitch 0.65 mm; Supplier 1: Digi-Key; Supplier Part Number 1: 296-7531-2-ND; Supplier 2: Digi-Key; Supplier Part Number 2: 296-7531-1-ND; Supplier 3: Digi-Key; Supplier Part Number 3: 296-7531-6-ND; Supplier 4: Mouser; Supplier Part Number 4: 595-THS4042CDGNR; Acl, min stable gain(V/V): 1; Diff Phase(deg): 0.01; Eco-Plan: Green (RoHS & no Sb/Br); Mounting Technology: Surface Mount; Code_JEDEC: MO-187; ComponentLink1Description: Manufacturer URL; ComponentLink1URL: http://www.ti.com/; ComponentLink2Description: Datasheet; ComponentLink2URL: http://www.ti.com/general/docs/lit/getliterature.tsp?genericPartNumber=THS4042&fileType=pdf; ComponentLink3Description: Package Specification; ComponentLink3URL: http://www.ti.com/litv/pdf/mpds046e
footprint TI-DGN8-1760X1425TP_N (SOP, 8-Leads, Body 3x3mm, Pitch 0.65mm, Thermal Pad 1.76x1.425mm, IPC Medium Density)
footprint TI-DGN8-1760X1425TP_L (SOP, 8-Leads, Body 3x3mm, Pitch 0.65mm, Thermal Pad 1.76x1.425mm, IPC High Density)
footprint TI-DGN8-1760X1425TP_M (SOP, 8-Leads, Body 3x3mm, Pitch 0.65mm, Thermal Pad 1.76 x 1.425 mm, IPC Low Density)
pins on every part: 4 VCC- (power), 8 VCC+ (power), 9 EP
part A pins: 1 OUT1 (out), 2 IN1- (in), 3 IN1+ (in)
part B pins: 5 IN2+ (in), 6 IN2- (in), 7 OUT2 (out)

## THS4042CDGNRG4
designator U?
165 MHz C-Stable Voltage-Feedback Amplifier, Dual, 9 to 32 V, 0 to 70 degC, 8-pin SOP (DGN8), Green (RoHS & no Sb/Br); Manufacturer: Texas Instruments; PartNumber: THS4042CDGNRG4; 2nd Harmonic(dBc): 75; 3rd Harmonic(dBc): 88; @ MHz: 1; BW @ Acl(MHz): 165; Diff Gain(%): 0.01; Iib(Max)(nA): 8000; Io(Typ)(mA): 100; Iq per channel(Max)(mA): 11; Number of Channels: 2; Settling Time (0.1%)(Typ)(ns): 95; Slew Rate(Typ)(V/us): 400; Sub Family: High Output Current Amplifier (>=50mA), High Speed Amplifier (>=50MHz), High Supply Voltage Amplifier (>=30V); THD (Fc is 1 MHz)(Typ)(dB): -75; Vio(Max)(mV): 10; Vn at Flatband(Typ)(nV/rtHz): 14; Vs(Max)(V): 32; Vs(Min)(V): 9; DatasheetVersion: SLOS237B; PackageVersion: 4073271/F, 05/2011; PackageReference: DGN8-1760X1425TP; PackageDescription: 8-pin Plastic Small Outline, Body 3 x 3 mm, Pitch 0.65 mm; Supplier 1: Digi-Key; Supplier Part Number 1: THS4042CDGNRG4-ND; Supplier 2: Mouser; Supplier Part Number 2: 595-THS4042CDGNRG4; Acl, min stable gain(V/V): 1; Diff Phase(deg): 0.01; Eco-Plan: Green (RoHS & no Sb/Br); Mounting Technology: Surface Mount; Code_JEDEC: MO-187; ComponentLink1Description: Manufacturer URL; ComponentLink1URL: http://www.ti.com/; ComponentLink2Description: Datasheet; ComponentLink2URL: http://www.ti.com/general/docs/lit/getliterature.tsp?genericPartNumber=THS4042&fileType=pdf; ComponentLink3Description: Package Specification; ComponentLink3URL: http://www.ti.com/litv/pdf/mpds046e
footprint TI-DGN8-1760X1425TP_N (SOP, 8-Leads, Body 3x3mm, Pitch 0.65mm, Thermal Pad 1.76x1.425mm, IPC Medium Density)
footprint TI-DGN8-1760X1425TP_L (SOP, 8-Leads, Body 3x3mm, Pitch 0.65mm, Thermal Pad 1.76x1.425mm, IPC High Density)
footprint TI-DGN8-1760X1425TP_M (SOP, 8-Leads, Body 3x3mm, Pitch 0.65mm, Thermal Pad 1.76 x 1.425 mm, IPC Low Density)
pins on every part: 4 VCC- (power), 8 VCC+ (power), 9 EP
part A pins: 1 OUT1 (out), 2 IN1- (in), 3 IN1+ (in)
part B pins: 5 IN2+ (in), 6 IN2- (in), 7 OUT2 (out)

## THS4042ID
designator U?
165 MHz C-Stable Voltage-Feedback Amplifier, Dual, 9 to 32 V, -40 to 85 degC, 8-pin SOIC (D8), Green (RoHS & no Sb/Br); Manufacturer: Texas Instruments; PartNumber: THS4042ID; 2nd Harmonic(dBc): 75; 3rd Harmonic(dBc): 88; @ MHz: 1; BW @ Acl(MHz): 165; Diff Gain(%): 0.01; Iib(Max)(nA): 8000; Io(Typ)(mA): 100; Iq per channel(Max)(mA): 11; Number of Channels: 2; Settling Time (0.1%)(Typ)(ns): 95; Slew Rate(Typ)(V/us): 400; Sub Family: High Output Current Amplifier (>=50mA), High Speed Amplifier (>=50MHz), High Supply Voltage Amplifier (>=30V); THD (Fc is 1 MHz)(Typ)(dB): -75; Vio(Max)(mV): 10; Vn at Flatband(Typ)(nV/rtHz): 14; Vs(Max)(V): 32; Vs(Min)(V): 9; DatasheetVersion: SLOS237B; PackageVersion: 4040047-3/M, 06/2011; PackageReference: D8; PackageDescription: 8-Pin Plastic Small Outline, Body 4.9 x 3.9 mm, Pitch 1.27 mm; Supplier 1: Digi-Key; Supplier Part Number 1: 296-7532-5-ND; Supplier 2: Mouser; Supplier Part Number 2: 595-THS4042ID; Acl, min stable gain(V/V): 1; Diff Phase(deg): 0.01; Eco-Plan: Green (RoHS & no Sb/Br); Mounting Technology: Surface Mount; Code_JEDEC: MS-012; ComponentLink1Description: Manufacturer URL; ComponentLink1URL: http://www.ti.com/; ComponentLink2Description: Datasheet; ComponentLink2URL: http://www.ti.com/general/docs/lit/getliterature.tsp?genericPartNumber=THS4042&fileType=pdf; ComponentLink3Description: Package Specification; ComponentLink3URL: http://www.ti.com/litv/pdf/msoi002j
footprint TI-D8_N (SOIC, 8-Leads, Body 4.9x3.9mm, Pitch 1.27mm, IPC Medium Density)
footprint TI-D8_L (SOIC, 8-Leads, Body 4.9x3.9mm, Pitch 1.27mm, IPC High Density)
footprint TI-D8_M (SOIC, 8-Leads, Body 4.9x3.9mm, Pitch 1.27mm, IPC Low Density)
pins on every part: 4 VCC- (power), 8 VCC+ (power)
part A pins: 1 OUT1 (out), 2 IN1- (in), 3 IN1+ (in)
part B pins: 5 IN2+ (in), 6 IN2- (in), 7 OUT2 (out)

## THS4042IDG4
designator U?
165 MHz C-Stable Voltage-Feedback Amplifier, Dual, 9 to 32 V, -40 to 85 degC, 8-pin SOIC (D8), Green (RoHS & no Sb/Br); Manufacturer: Texas Instruments; PartNumber: THS4042IDG4; 2nd Harmonic(dBc): 75; 3rd Harmonic(dBc): 88; @ MHz: 1; BW @ Acl(MHz): 165; Diff Gain(%): 0.01; Iib(Max)(nA): 8000; Io(Typ)(mA): 100; Iq per channel(Max)(mA): 11; Number of Channels: 2; Settling Time (0.1%)(Typ)(ns): 95; Slew Rate(Typ)(V/us): 400; Sub Family: High Output Current Amplifier (>=50mA), High Speed Amplifier (>=50MHz), High Supply Voltage Amplifier (>=30V); THD (Fc is 1 MHz)(Typ)(dB): -75; Vio(Max)(mV): 10; Vn at Flatband(Typ)(nV/rtHz): 14; Vs(Max)(V): 32; Vs(Min)(V): 9; DatasheetVersion: SLOS237B; PackageVersion: 4040047-3/M, 06/2011; PackageReference: D8; PackageDescription: 8-Pin Plastic Small Outline, Body 4.9 x 3.9 mm, Pitch 1.27 mm; Supplier 1: Digi-Key; Supplier Part Number 1: THS4042IDG4-ND; Supplier 2: Mouser; Supplier Part Number 2: 595-THS4042IDG4; Acl, min stable gain(V/V): 1; Diff Phase(deg): 0.01; Eco-Plan: Green (RoHS & no Sb/Br); Mounting Technology: Surface Mount; Code_JEDEC: MS-012; ComponentLink1Description: Manufacturer URL; ComponentLink1URL: http://www.ti.com/; ComponentLink2Description: Datasheet; ComponentLink2URL: http://www.ti.com/general/docs/lit/getliterature.tsp?genericPartNumber=THS4042&fileType=pdf; ComponentLink3Description: Package Specification; ComponentLink3URL: http://www.ti.com/litv/pdf/msoi002j
footprint TI-D8_N (SOIC, 8-Leads, Body 4.9x3.9mm, Pitch 1.27mm, IPC Medium Density)
footprint TI-D8_L (SOIC, 8-Leads, Body 4.9x3.9mm, Pitch 1.27mm, IPC High Density)
footprint TI-D8_M (SOIC, 8-Leads, Body 4.9x3.9mm, Pitch 1.27mm, IPC Low Density)
pins on every part: 4 VCC- (power), 8 VCC+ (power)
part A pins: 1 OUT1 (out), 2 IN1- (in), 3 IN1+ (in)
part B pins: 5 IN2+ (in), 6 IN2- (in), 7 OUT2 (out)

## THS4042IDGN
designator U?
165 MHz C-Stable Voltage-Feedback Amplifier, Dual, 9 to 32 V, -40 to 85 degC, 8-pin SOP (DGN8), Green (RoHS & no Sb/Br); Manufacturer: Texas Instruments; PartNumber: THS4042IDGN; 2nd Harmonic(dBc): 75; 3rd Harmonic(dBc): 88; @ MHz: 1; BW @ Acl(MHz): 165; Diff Gain(%): 0.01; Iib(Max)(nA): 8000; Io(Typ)(mA): 100; Iq per channel(Max)(mA): 11; Number of Channels: 2; Settling Time (0.1%)(Typ)(ns): 95; Slew Rate(Typ)(V/us): 400; Sub Family: High Output Current Amplifier (>=50mA), High Speed Amplifier (>=50MHz), High Supply Voltage Amplifier (>=30V); THD (Fc is 1 MHz)(Typ)(dB): -75; Vio(Max)(mV): 10; Vn at Flatband(Typ)(nV/rtHz): 14; Vs(Max)(V): 32; Vs(Min)(V): 9; DatasheetVersion: SLOS237B; PackageVersion: 4073271/F, 05/2011; PackageReference: DGN8-1760X1425TP; PackageDescription: 8-pin Plastic Small Outline, Body 3 x 3 mm, Pitch 0.65 mm; Supplier 1: Digi-Key; Supplier Part Number 1: 296-34208-5-ND; Supplier 2: Newark; Supplier Part Number 2: 83C7608; Supplier 3: Mouser; Supplier Part Number 3: 595-THS4042IDGN; Acl, min stable gain(V/V): 1; Diff Phase(deg): 0.01; Eco-Plan: Green (RoHS & no Sb/Br); Mounting Technology: Surface Mount; Code_JEDEC: MO-187; ComponentLink1Description: Manufacturer URL; ComponentLink1URL: http://www.ti.com/; ComponentLink2Description: Datasheet; ComponentLink2URL: http://www.ti.com/general/docs/lit/getliterature.tsp?genericPartNumber=THS4042&fileType=pdf; ComponentLink3Description: Package Specification; ComponentLink3URL: http://www.ti.com/litv/pdf/mpds046e
footprint TI-DGN8-1760X1425TP_N (SOP, 8-Leads, Body 3x3mm, Pitch 0.65mm, Thermal Pad 1.76x1.425mm, IPC Medium Density)
footprint TI-DGN8-1760X1425TP_L (SOP, 8-Leads, Body 3x3mm, Pitch 0.65mm, Thermal Pad 1.76x1.425mm, IPC High Density)
footprint TI-DGN8-1760X1425TP_M (SOP, 8-Leads, Body 3x3mm, Pitch 0.65mm, Thermal Pad 1.76 x 1.425 mm, IPC Low Density)
pins on every part: 4 VCC- (power), 8 VCC+ (power), 9 EP
part A pins: 1 OUT1 (out), 2 IN1- (in), 3 IN1+ (in)
part B pins: 5 IN2+ (in), 6 IN2- (in), 7 OUT2 (out)

## THS4042IDGNG4
designator U?
165 MHz C-Stable Voltage-Feedback Amplifier, Dual, 9 to 32 V, -40 to 85 degC, 8-pin SOP (DGN8), Green (RoHS & no Sb/Br); Manufacturer: Texas Instruments; PartNumber: THS4042IDGNG4; 2nd Harmonic(dBc): 75; 3rd Harmonic(dBc): 88; @ MHz: 1; BW @ Acl(MHz): 165; Diff Gain(%): 0.01; Iib(Max)(nA): 8000; Io(Typ)(mA): 100; Iq per channel(Max)(mA): 11; Number of Channels: 2; Settling Time (0.1%)(Typ)(ns): 95; Slew Rate(Typ)(V/us): 400; Sub Family: High Output Current Amplifier (>=50mA), High Speed Amplifier (>=50MHz), High Supply Voltage Amplifier (>=30V); THD (Fc is 1 MHz)(Typ)(dB): -75; Vio(Max)(mV): 10; Vn at Flatband(Typ)(nV/rtHz): 14; Vs(Max)(V): 32; Vs(Min)(V): 9; DatasheetVersion: SLOS237B; PackageVersion: 4073271/F, 05/2011; PackageReference: DGN8-1760X1425TP; PackageDescription: 8-pin Plastic Small Outline, Body 3 x 3 mm, Pitch 0.65 mm; Supplier 1: Digi-Key; Supplier Part Number 1: THS4042IDGNG4-ND; Supplier 2: Mouser; Supplier Part Number 2: 595-THS4042IDGNG4; Acl, min stable gain(V/V): 1; Diff Phase(deg): 0.01; Eco-Plan: Green (RoHS & no Sb/Br); Mounting Technology: Surface Mount; Code_JEDEC: MO-187; ComponentLink1Description: Manufacturer URL; ComponentLink1URL: http://www.ti.com/; ComponentLink2Description: Datasheet; ComponentLink2URL: http://www.ti.com/general/docs/lit/getliterature.tsp?genericPartNumber=THS4042&fileType=pdf; ComponentLink3Description: Package Specification; ComponentLink3URL: http://www.ti.com/litv/pdf/mpds046e
footprint TI-DGN8-1760X1425TP_N (SOP, 8-Leads, Body 3x3mm, Pitch 0.65mm, Thermal Pad 1.76x1.425mm, IPC Medium Density)
footprint TI-DGN8-1760X1425TP_L (SOP, 8-Leads, Body 3x3mm, Pitch 0.65mm, Thermal Pad 1.76x1.425mm, IPC High Density)
footprint TI-DGN8-1760X1425TP_M (SOP, 8-Leads, Body 3x3mm, Pitch 0.65mm, Thermal Pad 1.76 x 1.425 mm, IPC Low Density)
pins on every part: 4 VCC- (power), 8 VCC+ (power), 9 EP
part A pins: 1 OUT1 (out), 2 IN1- (in), 3 IN1+ (in)
part B pins: 5 IN2+ (in), 6 IN2- (in), 7 OUT2 (out)

## THS4042IDGNR
designator U?
165 MHz C-Stable Voltage-Feedback Amplifier, Dual, 9 to 32 V, -40 to 85 degC, 8-pin SOP (DGN8), Green (RoHS & no Sb/Br); Manufacturer: Texas Instruments; PartNumber: THS4042IDGNR; 2nd Harmonic(dBc): 75; 3rd Harmonic(dBc): 88; @ MHz: 1; BW @ Acl(MHz): 165; Diff Gain(%): 0.01; Iib(Max)(nA): 8000; Io(Typ)(mA): 100; Iq per channel(Max)(mA): 11; Number of Channels: 2; Settling Time (0.1%)(Typ)(ns): 95; Slew Rate(Typ)(V/us): 400; Sub Family: High Output Current Amplifier (>=50mA), High Speed Amplifier (>=50MHz), High Supply Voltage Amplifier (>=30V); THD (Fc is 1 MHz)(Typ)(dB): -75; Vio(Max)(mV): 10; Vn at Flatband(Typ)(nV/rtHz): 14; Vs(Max)(V): 32; Vs(Min)(V): 9; DatasheetVersion: SLOS237B; PackageVersion: 4073271/F, 05/2011; PackageReference: DGN8-1760X1425TP; PackageDescription: 8-pin Plastic Small Outline, Body 3 x 3 mm, Pitch 0.65 mm; Supplier 1: Digi-Key; Supplier Part Number 1: 296-7533-2-ND; Supplier 2: Digi-Key; Supplier Part Number 2: 296-7533-1-ND; Supplier 3: Digi-Key; Supplier Part Number 3: 296-7533-6-ND; Supplier 4: Newark; Supplier Part Number 4: 76C6332; Supplier 5: Mouser; Supplier Part Number 5: 595-THS4042IDGNR; Acl, min stable gain(V/V): 1; Diff Phase(deg): 0.01; Eco-Plan: Green (RoHS & no Sb/Br); Mounting Technology: Surface Mount; Code_JEDEC: MO-187; ComponentLink1Description: Manufacturer URL; ComponentLink1URL: http://www.ti.com/; ComponentLink2Description: Datasheet; ComponentLink2URL: http://www.ti.com/general/docs/lit/getliterature.tsp?genericPartNumber=THS4042&fileType=pdf; ComponentLink3Description: Package Specification; ComponentLink3URL: http://www.ti.com/litv/pdf/mpds046e
footprint TI-DGN8-1760X1425TP_N (SOP, 8-Leads, Body 3x3mm, Pitch 0.65mm, Thermal Pad 1.76x1.425mm, IPC Medium Density)
footprint TI-DGN8-1760X1425TP_L (SOP, 8-Leads, Body 3x3mm, Pitch 0.65mm, Thermal Pad 1.76x1.425mm, IPC High Density)
footprint TI-DGN8-1760X1425TP_M (SOP, 8-Leads, Body 3x3mm, Pitch 0.65mm, Thermal Pad 1.76 x 1.425 mm, IPC Low Density)
pins on every part: 4 VCC- (power), 8 VCC+ (power), 9 EP
part A pins: 1 OUT1 (out), 2 IN1- (in), 3 IN1+ (in)
part B pins: 5 IN2+ (in), 6 IN2- (in), 7 OUT2 (out)

## THS4042IDGNRG4
designator U?
165 MHz C-Stable Voltage-Feedback Amplifier, Dual, 9 to 32 V, -40 to 85 degC, 8-pin SOP (DGN8), Green (RoHS & no Sb/Br); Manufacturer: Texas Instruments; PartNumber: THS4042IDGNRG4; 2nd Harmonic(dBc): 75; 3rd Harmonic(dBc): 88; @ MHz: 1; BW @ Acl(MHz): 165; Diff Gain(%): 0.01; Iib(Max)(nA): 8000; Io(Typ)(mA): 100; Iq per channel(Max)(mA): 11; Number of Channels: 2; Settling Time (0.1%)(Typ)(ns): 120; Slew Rate(Typ)(V/us): 400; Sub Family: High Output Current Amplifier (>=50mA), High Speed Amplifier (>=50MHz), High Supply Voltage Amplifier (>=30V); THD (Fc is 1 MHz)(Typ)(dB): -75; Vio(Max)(mV): 10; Vn at Flatband(Typ)(nV/rtHz): 14; Vs(Max)(V): 32; Vs(Min)(V): 9; DatasheetVersion: SLOS237B; PackageVersion: 4073271/F, 05/2011; PackageReference: DGN8-1760X1425TP; PackageDescription: 8-pin Plastic Small Outline, Body 3 x 3 mm, Pitch 0.65 mm; Supplier 1: Digi-Key; Supplier Part Number 1: THS4042IDGNRG4-ND; Supplier 2: Mouser; Supplier Part Number 2: 595-THS4042IDGNRG4; Acl, min stable gain(V/V): 1; Diff Phase(deg): 0.01; Eco-Plan: Green (RoHS & no Sb/Br); Mounting Technology: Surface Mount; Code_JEDEC: MO-187; ComponentLink1Description: Manufacturer URL; ComponentLink1URL: http://www.ti.com/; ComponentLink2Description: Datasheet; ComponentLink2URL: http://www.ti.com/general/docs/lit/getliterature.tsp?genericPartNumber=THS4042&fileType=pdf; ComponentLink3Description: Package Specification; ComponentLink3URL: http://www.ti.com/litv/pdf/mpds046e
footprint TI-DGN8-1760X1425TP_N (SOP, 8-Leads, Body 3x3mm, Pitch 0.65mm, Thermal Pad 1.76x1.425mm, IPC Medium Density)
footprint TI-DGN8-1760X1425TP_L (SOP, 8-Leads, Body 3x3mm, Pitch 0.65mm, Thermal Pad 1.76x1.425mm, IPC High Density)
footprint TI-DGN8-1760X1425TP_M (SOP, 8-Leads, Body 3x3mm, Pitch 0.65mm, Thermal Pad 1.76 x 1.425 mm, IPC Low Density)
pins on every part: 4 VCC- (power), 8 VCC+ (power), 9 EP
part A pins: 1 OUT1 (out), 2 IN1- (in), 3 IN1+ (in)
part B pins: 5 IN2+ (in), 6 IN2- (in), 7 OUT2 (out)

## THS4051CD
designator U?
70 MHz Low-Cost Voltage-Feedback Amplifier, 9 to 32 V, 0 to 70 degC, 8-pin SOIC (D8), Green (RoHS & no Sb/Br); Manufacturer: Texas Instruments; PartNumber: THS4051CD; 2nd Harmonic(dBc): 84; 3rd Harmonic(dBc): 90; @ MHz: 1; BW @ Acl(MHz): 70; Diff Gain(%): 0.01; Iib(Max)(nA): 8000; Io(Typ)(mA): 100; Iq per channel(Max)(mA): 11.5; Settling Time (0.1%)(Typ)(ns): 60; Slew Rate(Typ)(V/us): 240; Sub Family: High Output Current Amplifier (>=50mA), High Speed Amplifier (>=50MHz), High Supply Voltage Amplifier (>=30V); THD (Fc is 1 MHz)(Typ)(dB): -82; Vio(Max)(mV): 10; Vn at Flatband(Typ)(nV/rtHz): 14; Vs(Max)(V): 32; Vs(Min)(V): 9; DatasheetVersion: SLOS238D; PackageVersion: 4040047-3/M, 06/2011; PackageReference: D8; PackageDescription: 8-Pin Plastic Small Outline, Body 4.9 x 3.9 mm, Pitch 1.27 mm; Supplier 1: Digi-Key; Supplier Part Number 1: 296-2408-5-ND; Supplier 2: Farnell; Supplier Part Number 2: 4512479; Supplier 3: Newark; Supplier Part Number 3: 19C8975; Supplier 4: Mouser; Supplier Part Number 4: 595-THS4051CD; Acl, min stable gain(V/V): 1; Diff Phase(deg): 0.01; Eco-Plan: Green (RoHS & no Sb/Br); Number of Channels: 1; Mounting Technology: Surface Mount; Code_JEDEC: MS-012; ComponentLink1Description: Manufacturer URL; ComponentLink1URL: http://www.ti.com/; ComponentLink2Description: Datasheet; ComponentLink2URL: http://www.ti.com/general/docs/lit/getliterature.tsp?genericPartNumber=THS4051&fileType=pdf; ComponentLink3Description: Package Specification; ComponentLink3URL: http://www.ti.com/litv/pdf/msoi002j
footprint TI-D8_N (SOIC, 8-Leads, Body 4.9x3.9mm, Pitch 1.27mm, IPC Medium Density)
footprint TI-D8_L (SOIC, 8-Leads, Body 4.9x3.9mm, Pitch 1.27mm, IPC High Density)
footprint TI-D8_M (SOIC, 8-Leads, Body 4.9x3.9mm, Pitch 1.27mm, IPC Low Density)
pins: 1 NULL (in), 2 IN- (in), 3 IN+ (in), 4 VCC- (power), 5 NC, 6 OUT (out), 7 VCC+ (power), 8 NULL (in)

## THS4051CDG4
designator U?
70 MHz Low-Cost Voltage-Feedback Amplifier, 9 to 32 V, 0 to 70 degC, 8-pin SOIC (D8), Green (RoHS & no Sb/Br); Manufacturer: Texas Instruments; PartNumber: THS4051CDG4; 2nd Harmonic(dBc): 84; 3rd Harmonic(dBc): 90; @ MHz: 1; BW @ Acl(MHz): 70; Diff Gain(%): 0.01; Iib(Max)(nA): 8000; Io(Typ)(mA): 100; Iq per channel(Max)(mA): 11.5; Settling Time (0.1%)(Typ)(ns): 60; Slew Rate(Typ)(V/us): 240; Sub Family: High Output Current Amplifier (>=50mA), High Speed Amplifier (>=50MHz), High Supply Voltage Amplifier (>=30V); THD (Fc is 1 MHz)(Typ)(dB): -82; Vio(Max)(mV): 10; Vn at Flatband(Typ)(nV/rtHz): 14; Vs(Max)(V): 32; Vs(Min)(V): 9; DatasheetVersion: SLOS238D; PackageVersion: 4040047-3/M, 06/2011; PackageReference: D8; PackageDescription: 8-Pin Plastic Small Outline, Body 4.9 x 3.9 mm, Pitch 1.27 mm; Supplier 1: Digi-Key; Supplier Part Number 1: THS4051CDG4-ND; Supplier 2: Mouser; Supplier Part Number 2: 595-THS4051CDG4; Acl, min stable gain(V/V): 1; Diff Phase(deg): 0.01; Eco-Plan: Green (RoHS & no Sb/Br); Number of Channels: 1; Mounting Technology: Surface Mount; Code_JEDEC: MS-012; ComponentLink1Description: Manufacturer URL; ComponentLink1URL: http://www.ti.com/; ComponentLink2Description: Datasheet; ComponentLink2URL: http://www.ti.com/general/docs/lit/getliterature.tsp?genericPartNumber=THS4051&fileType=pdf; ComponentLink3Description: Package Specification; ComponentLink3URL: http://www.ti.com/litv/pdf/msoi002j
footprint TI-D8_N (SOIC, 8-Leads, Body 4.9x3.9mm, Pitch 1.27mm, IPC Medium Density)
footprint TI-D8_L (SOIC, 8-Leads, Body 4.9x3.9mm, Pitch 1.27mm, IPC High Density)
footprint TI-D8_M (SOIC, 8-Leads, Body 4.9x3.9mm, Pitch 1.27mm, IPC Low Density)
pins: 1 NULL (in), 2 IN- (in), 3 IN+ (in), 4 VCC- (power), 5 NC, 6 OUT (out), 7 VCC+ (power), 8 NULL (in)